# EAGLE library part 1-207216-6 (library FSAE Electric)
TE 28 Pin Recepticle to board connector
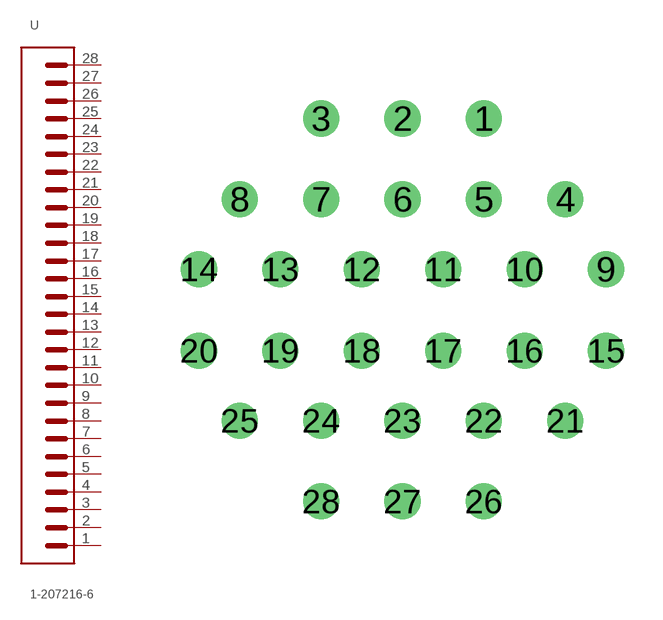
[diagram p77: symbol with the pads of 1-207216-6; footprint 1-207216-6]

Designator prefix -

## 1-207216-6 (PARTNO: 1-207216-6)  [1-207216-6]
1  P$1
2  P$2
3  P$3
4  P$4
5  P$5
6  P$6
7  P$7
8  P$8
9  P$9
10  P$10
11  P$11
12  P$12
13  P$13
14  P$14
15  P$15
16  P$16
17  P$17
18  P$18
19  P$19
20  P$20
21  P$21
22  P$22
23  P$23
24  P$24
25  P$25
26  P$26
27  P$27
28  P$28

## Footprint 1-207216-6 (pad centres in mm)
drill 0.9: 1 3.175,7.468; 2 0,7.468; 3 -3.175,7.468; 4 6.35,4.318; 5 3.175,4.318; 6 0,4.318; 7 -3.175,4.318; 8 -6.35,4.318; 9 7.938,1.587; 10 4.763,1.587; 11 1.587,1.587; 12 -1.587,1.587; 13 -4.763,1.587; 14 -7.938,1.587; 15 7.938,-1.587; 16 4.763,-1.587; 17 1.587,-1.587; 18 -1.587,-1.587; 19 -4.763,-1.587; 20 -7.938,-1.587; 21 6.35,-4.318; 22 3.175,-4.318; 23 0,-4.318; 24 -3.175,-4.318; 25 -6.35,-4.318; 26 3.175,-7.468; 27 0,-7.468; 28 -3.175,-7.468